# Altium schematic symbol library MEM2085-00-115-00-A.SchLib: 1 symbol
Pins are listed as number, name and electrical type; pins without a type are passive.

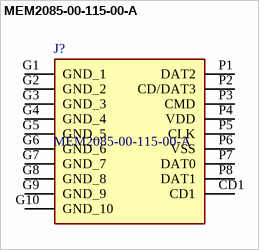
[diagram p0: symbol MEM2085-00-115-00-A]

## MEM2085-00-115-00-A
designator J?
Memory Card Connectors Micro SD Push Pull SMT 1.15mm No Peg; Manufacturer_Name: GCT (GLOBAL CONNECTOR TECHNOLOGY); Geometry.Height: 1.35mm; Mouser Part Number: 640-MEM20850011500A; Mouser Price/Stock: https://www.mouser.co.uk/ProductDetail/GCT/MEM2085-00-115-00-A?qs=rQFj71Wb1eWNkFUhuuvVIA%3D%3D; Manufacturer_Part_Number: MEM2085-00-115-00-A; Datasheet Link: https://gct.co/files/drawings/mem2085.pdf
footprint MEM20850011500A
pins: CD1, G1 GND_1, G2 GND_2, G3 GND_3, G4 GND_4, G5 GND_5, G6 GND_6, G7 GND_7, G8 GND_8, G9 GND_9, G10 GND_10, P1 DAT2, P2 CD/DAT3, P3 CMD, P4 VDD, P5 CLK, P6 VSS, P7 DAT0, P8 DAT1